# Altium schematic symbol library Common_library.SchLib: 11 symbols
Pins are listed as number, name and electrical type; pins without a type are passive.

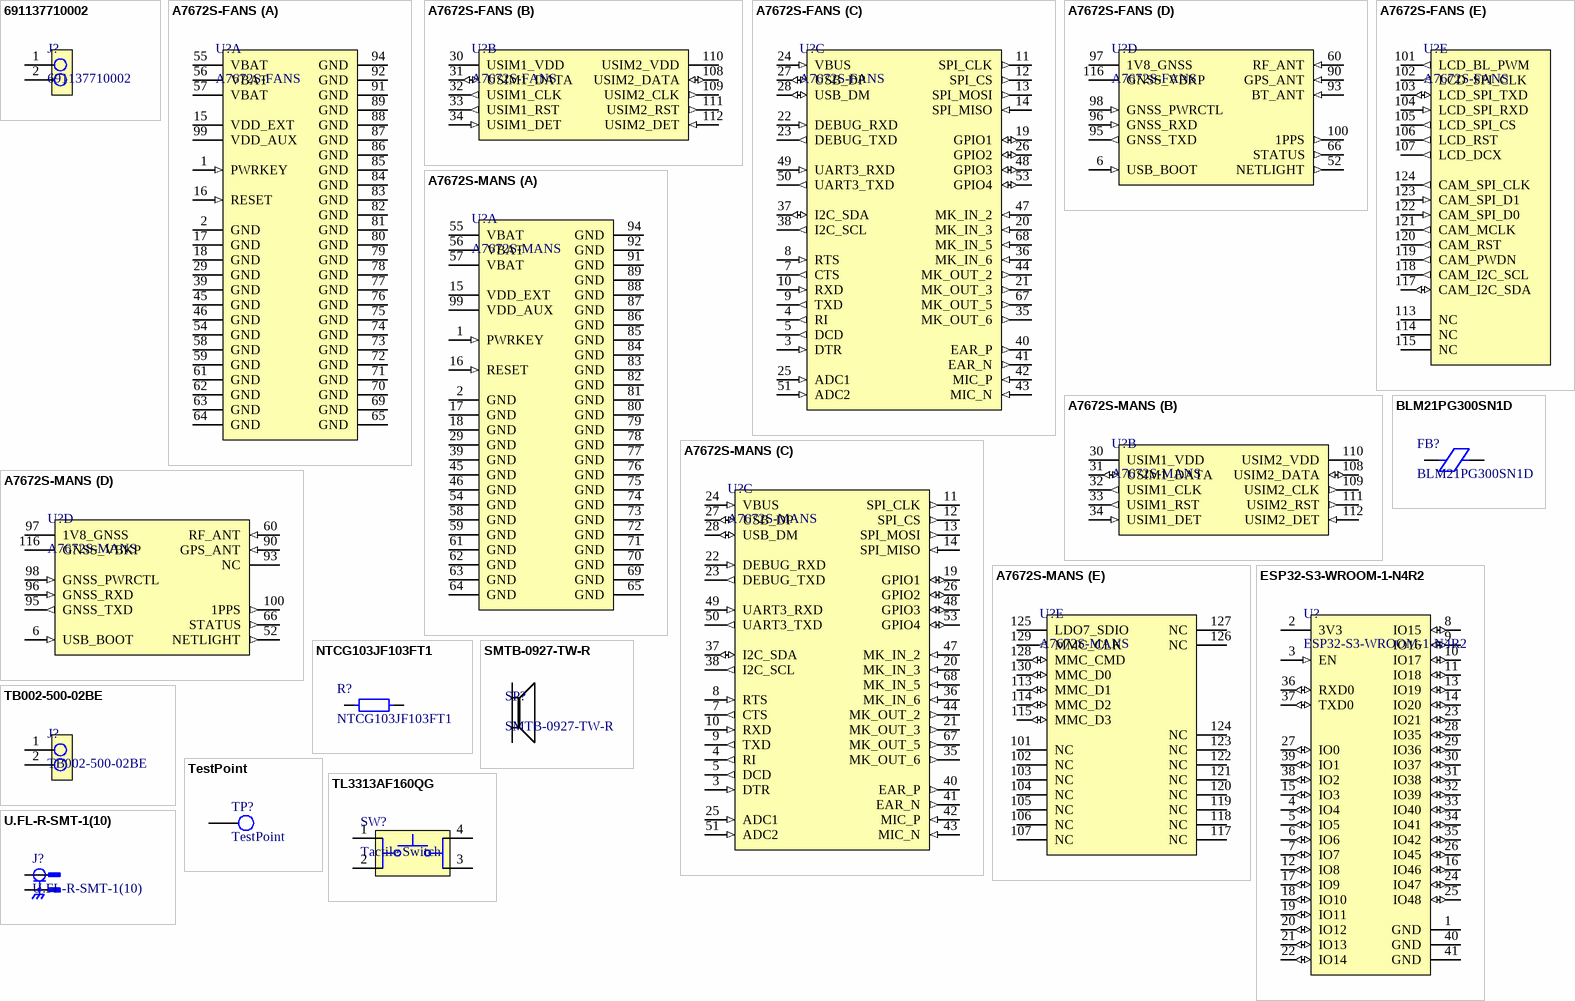
[diagram p0: symbols 691137710002 to U.FL-R-SMT-1(10)]

## 691137710002
designator J?
2 Position Wire to Board Terminal Block Horizontal with Board 0.197" (5.00mm) Through Hole; Manufacturer 1: Wurth Elektronik; Description 1: Terminal Block, 5MM Pitch, Horizontal, Pressure Clamp Glow Wire, Pcb, 2PINS, Gr; Category 1: Terminal Blocks; Current Rating: 16A; Number of Contacts: 2; Packaging 1: Box; Pitch: 5mm; Voltage Rating: 300V; Supplier 1: DigiKey; Supplier Part Number 1: 732-10955-ND; Manufacturer Part Number 1: 691137710002; RoHS 1: Compliant; Contact Material: Nickel, Tin; Height: 11.5mm; Lead Pitch: 5mm; Length: 10mm; Max Operating Temperature 1: 110°C; Min Operating Temperature 1: -30°C; Number of Pins 1: 2; Number of Rows: 1; ComponentLink1URL: https://datasheet.octopart.com:443/691137710002-Wurth-Elektronik-datasheet-166323112.pdf?src-supplier=Wurth+Elektronik; ComponentLink1Description: https://datasheet.octopart.com:443/691137710002-Wurth-Elektronik-datasheet-166323112.pdf?src-supplier=Wurth+Elektronik; Supplier 2: Mouser; Supplier Part Number 2: 710-691137710002; Supplier 3: Newark; Supplier Part Number 3: 691137710002; Supplier 4: Farnell; Supplier Part Number 4: 3767630
footprint 691137710002 (2 Position Wire to Board Terminal Block Horizontal with Board 0.197" (5.00mm) Through Hole)
pins: 1 "Connector_Pin1", 2 "Connector_Pin2"

## A7672S-FANS
designator U?
Cellular EDGE, GPRS, GSM, LTE Transceiver Module 900MHz, 1.8GHz Surface Mount; Manufacturer 1: SIMCom; Manufacturer Part Number 1: A7672S; ComponentLink1Description: Product page; ComponentLink1URL: https://www.simcom.com/product/A7672X.html; ComponentLink2Description: Product datasheet; ComponentLink2URL: https://www.snapeda.com/parts/A7672S/SIMCom/datasheet/
footprint A7672S-FANS (Cellular EDGE, GPRS, GSM, LTE Transceiver Module 900MHz, 1.8GHz Surface Mount)
part A pins: 1 PWRKEY (in) "Power ON/OFF input, active low. Power button defaults high", 2 GND (power) "Ground", 15 VDD_EXT (power) "1.8V power output, output current up to 50 mA. Cannot provide to high power load, can provide power for level conversion circuit,etc.", 16 RESET (in) "System reset control input, active low.", 17 GND (power) "Ground", 18 GND (power) "Ground", 29 GND (power) "Ground", 39 GND (power) "Ground", 45 GND (power) "Ground", 46 GND (power) "Ground", 54 GND (power) "Ground", 55 VBAT (power) "Module input voltage ranges from 3.4V to 4.2V, typical value is 3.8V, and the peak current value can reach1A.", 56 VBAT (power) "Module input voltage ranges from 3.4V to 4.2V, typical value is 3.8V, and the peak current value can reach1A.", 57 VBAT (power) "Module input voltage ranges from 3.4V to 4.2V, typical value is 3.8V, and the peak current value can reach1A.", 58 GND (power) "Ground", 59 GND (power) "Ground", 61 GND (power) "Ground", 62 GND (power) "Ground", 63 GND (power) "Ground", 64 GND (power) "Ground", 65 GND (power) "Ground", 69 GND (power) "Ground", 70 GND (power) "Ground", 71 GND (power) "Ground", 72 GND (power) "Ground", 73 GND (power) "Ground", 74 GND (power) "Ground", 75 GND (power) "Ground", 76 GND (power) "Ground", 77 GND (power) "Ground", 78 GND (power) "Ground", 79 GND (power) "Ground", 80 GND (power) "Ground", 81 GND (power) "Ground", 82 GND (power) "Ground", 83 GND (power) "Ground", 84 GND (power) "Ground", 85 GND (power) "Ground", 86 GND (power) "Ground", 87 GND (power) "Ground", 88 GND (power) "Ground", 89 GND (power) "Ground", 91 GND (power) "Ground", 92 GND (power) "Ground", 94 GND (power) "Ground", 99 VDD_AUX (power) "The default output voltage is 3V. The maximum output current is 50mA. Cannot provide to high power load."
part B pins: 30 USIM1_VDD (power) "USIM1 card power supply output, output voltage can be dynamically changed according to the type of external card, output current maximum 50mA.", 31 USIM1_DATA (io) "USIM1 bus data, module internal 4.7KΩ resistor pulled up to USIM1_VDD.", 32 USIM1_CLK (out) "USIM1 bus clock output.", 33 USIM1_RST (out) "USIM1 bus reset output.", 34 USIM1_DET (in) "USIM1 insert detect, it can be set to high/low active with the AT command.", 108 USIM2_DATA (io) "USIM2 bus data, module internal 4.7KΩ resistor pulled up to USIM2_VDD.", 109 USIM2_CLK (out) "USIM2 bus clock output.", 110 USIM2_VDD (power) "USIM2 card power supply output, output voltage can be dynamically changed according to the type of external card, output current maximum 50mA.", 111 USIM2_RST (out) "USIM2 bus reset output.", 112 USIM2_DET (in) "USIM2 insert detect, it can be set to high/low active with the AT command."
part C pins: 3 DTR (in) "DTE Ready.", 4 RI (out) "Ringing indicator.", 5 DCD (out) "Carrier detection.", 7 CTS (out) "CTS output.", 8 RTS (in) "RTS input.", 9 TXD (out) "Data output.", 10 RXD (in) "Data input.", 11 SPI_CLK (out) "SPI clock.", 12 SPI_CS (out) "SPI chip selection.", 13 SPI_MOSI (out) "SPI Main output slave input.", 14 SPI_MISO (in) "SPI Main input slave output.", 19 GPIO1 (io) "General purpose I/O 1", 20 MK_IN_3 (in) "Keyboard input.", 21 MK_OUT_3 (out) "Keyboard output.", 22 DEBUG_RXD (in) "UART input.", 23 DEBUG_TXD (out) "UART output.", 24 VBUS (in) "Valid USB detection input. Active high.", 25 ADC1 (in) "General purpose ADC 1", 26 GPIO2 (io) "General purpose I/O 2", 27 USB_DP (io) "USB bus differential positive terminal.", 28 USB_DM (io) "USB bus differential negative terminal.", 35 MK_OUT_6 (out) "Keyboard output.", 36 MK_IN_6 (in) "Keyboard input.", 37 I2C_SDA (io) "I2C data.", 38 I2C_SCL (out) "I2C clock.", 40 EAR_P (out) "Audio receiver output positive.", 41 EAR_N (out) "Audio receiver output negative.", 42 MIC_P (in) "MIC input positive.", 43 MIC_N (in) "MIC input negative.", 44 MK_OUT_2 (out) "Keyboard output.", 47 MK_IN_2 (in) "Keyboard input.", 48 GPIO3 (io) "General purpose I/O 3", 49 UART3_RXD (in) "UART3 input.", 50 UART3_TXD (out) "UART3 output.", 51 ADC2 (in) "General purpose ADC 2", 53 GPIO4 (io) "General purpose I/O 4", 67 MK_OUT_5 (out) "Keyboard output.", 68 MK_IN_5 (in) "Keyboard input."
part D pins: 6 USB_BOOT (in) "Force the download interface. Connect to GND and then power on the module. The module will enter the USB download mode.", 52 NETLIGHT (out) "Network registration status indicator (LED).", 60 RF_ANT (in) "Main antenna.", 66 STATUS (out) "Module status indicator (LED).", 90 GPS_ANT (in) "GNSS antenna.", 93 BT_ANT (in) "Bluetooth antenna.", 95 GNSS_TXD (out) "GNSS UART TX", 96 GNSS_RXD (in) "GNSS UART RX", 97 1V8_GNSS (power) "The power input for GNSS, Voltage range not less than 1.8V, but not higher than1.9V", 98 GNSS_PWRCTL (in) "The enable control PIN of GNSS power supply.", 100 1PPS (out) "1PPS pulse signal output.", 116 GNSS_VBKP (power) "GNSS standby power input, input voltage1.4V~3.6V"
part E pins: 101 LCD_BL_PWM (out) "LCD backlight adjusting PWM.", 102 LCD_SPI_CLK (out) "LCD SPI clock.", 103 LCD_SPI_TXD (io) "LCD SPI bidirectional data.", 104 LCD_SPI_RXD (in) "LCD SPI data.", 105 LCD_SPI_CS (out) "LCD SPI CS.", 106 LCD_RST (out) "LCD reset.", 107 LCD_DCX (out) "LCD Command/ parameter selection.", 113 NC "Not Connected.", 114 NC "Not Connected.", 115 NC "Not Connected.", 117 CAM_I2C_SDA (io) "CAM special I2C data.", 118 CAM_I2C_SCL (out) "CAM special I2C clock.", 119 CAM_PWDN (out) "CAM power down.", 120 CAM_RST (out) "Camera reset.", 121 CAM_MCLK (out) "Camera main clock.", 122 CAM_SPI_D0 (in) "Camera SPI D0", 123 CAM_SPI_D1 (in) "Camera SPI D1", 124 CAM_SPI_CLK (out) "Camera SPI clock."

## A7672S-MANS
designator U?
Cellular EDGE, GPRS, GSM, LTE Transceiver Module 900MHz, 1.8GHz Surface Mount; Manufacturer 1: SIMCom; Manufacturer Part Number 1: A7672S; ComponentLink1Description: Product page; ComponentLink1URL: https://www.simcom.com/product/A7672X.html; ComponentLink2Description: Product datasheet; ComponentLink2URL: https://www.snapeda.com/parts/A7672S/SIMCom/datasheet/
footprint A7672S-MANS (Cellular EDGE, GPRS, GSM, LTE Transceiver Module 900MHz, 1.8GHz Surface Mount)
part A pins: 1 PWRKEY (in) "Power ON/OFF input, active low. Power button defaults high", 2 GND (power) "Ground", 15 VDD_EXT (power) "1.8V power output, output current up to 50 mA. Cannot provide to high power load, can provide power for level conversion circuit,etc.", 16 RESET (in) "System reset control input, active low.", 17 GND (power) "Ground", 18 GND (power) "Ground", 29 GND (power) "Ground", 39 GND (power) "Ground", 45 GND (power) "Ground", 46 GND (power) "Ground", 54 GND (power) "Ground", 55 VBAT (power) "Module input voltage ranges from 3.4V to 4.2V, typical value is 3.8V, and the peak current value can reach1A.", 56 VBAT (power) "Module input voltage ranges from 3.4V to 4.2V, typical value is 3.8V, and the peak current value can reach1A.", 57 VBAT (power) "Module input voltage ranges from 3.4V to 4.2V, typical value is 3.8V, and the peak current value can reach1A.", 58 GND (power) "Ground", 59 GND (power) "Ground", 61 GND (power) "Ground", 62 GND (power) "Ground", 63 GND (power) "Ground", 64 GND (power) "Ground", 65 GND (power) "Ground", 69 GND (power) "Ground", 70 GND (power) "Ground", 71 GND (power) "Ground", 72 GND (power) "Ground", 73 GND (power) "Ground", 74 GND (power) "Ground", 75 GND (power) "Ground", 76 GND (power) "Ground", 77 GND (power) "Ground", 78 GND (power) "Ground", 79 GND (power) "Ground", 80 GND (power) "Ground", 81 GND (power) "Ground", 82 GND (power) "Ground", 83 GND (power) "Ground", 84 GND (power) "Ground", 85 GND (power) "Ground", 86 GND (power) "Ground", 87 GND (power) "Ground", 88 GND (power) "Ground", 89 GND (power) "Ground", 91 GND (power) "Ground", 92 GND (power) "Ground", 94 GND (power) "Ground", 99 VDD_AUX (power) "The default output voltage is 3V. The maximum output current is 50mA. Cannot provide to high power load."
part B pins: 30 USIM1_VDD (power) "USIM1 card power supply output, output voltage can be dynamically changed according to the type of external card, output current maximum 50mA.", 31 USIM1_DATA (io) "USIM1 bus data, module internal 4.7KΩ resistor pulled up to USIM1_VDD.", 32 USIM1_CLK (out) "USIM1 bus clock output.", 33 USIM1_RST (out) "USIM1 bus reset output.", 34 USIM1_DET (in) "USIM1 insert detect, it can be set to high/low active with the AT command.", 108 USIM2_DATA (io) "USIM2 bus data, module internal 4.7KΩ resistor pulled up to USIM2_VDD.", 109 USIM2_CLK (out) "USIM2 bus clock output.", 110 USIM2_VDD (power) "USIM2 card power supply output, output voltage can be dynamically changed according to the type of external card, output current maximum 50mA.", 111 USIM2_RST (out) "USIM2 bus reset output.", 112 USIM2_DET (in) "USIM2 insert detect, it can be set to high/low active with the AT command."
part C pins: 3 DTR (in) "DTE Ready.", 4 RI (out) "Ringing indicator.", 5 DCD (out) "Carrier detection.", 7 CTS (out) "CTS output.", 8 RTS (in) "RTS input.", 9 TXD (out) "Data output.", 10 RXD (in) "Data input.", 11 SPI_CLK (out) "SPI clock.", 12 SPI_CS (out) "SPI chip selection.", 13 SPI_MOSI (out) "SPI Main output slave input.", 14 SPI_MISO (in) "SPI Main input slave output.", 19 GPIO1 (io) "General purpose I/O 1", 20 MK_IN_3 (in) "Keyboard input.", 21 MK_OUT_3 (out) "Keyboard output.", 22 DEBUG_RXD (in) "UART input.", 23 DEBUG_TXD (out) "UART output.", 24 VBUS (in) "Valid USB detection input. Active high.", 25 ADC1 (in) "General purpose ADC 1", 26 GPIO2 (io) "General purpose I/O 2", 27 USB_DP (io) "USB bus differential positive terminal.", 28 USB_DM (io) "USB bus differential negative terminal.", 35 MK_OUT_6 (out) "Keyboard output.", 36 MK_IN_6 (in) "Keyboard input.", 37 I2C_SDA (io) "I2C data.", 38 I2C_SCL (out) "I2C clock.", 40 EAR_P (out) "Audio receiver output positive.", 41 EAR_N (out) "Audio receiver output negative.", 42 MIC_P (in) "MIC input positive.", 43 MIC_N (in) "MIC input negative.", 44 MK_OUT_2 (out) "Keyboard output.", 47 MK_IN_2 (in) "Keyboard input.", 48 GPIO3 (io) "General purpose I/O 3", 49 UART3_RXD (in) "UART3 input.", 50 UART3_TXD (out) "UART3 output.", 51 ADC2 (in) "General purpose ADC 2", 53 GPIO4 (io) "General purpose I/O 4", 67 MK_OUT_5 (out) "Keyboard output.", 68 MK_IN_5 (in) "Keyboard input."
part D pins: 6 USB_BOOT (in) "Force the download interface. Connect to GND and then power on the module. The module will enter the USB download mode.", 52 NETLIGHT (out) "Network registration status indicator (LED).", 60 RF_ANT (in) "Main antenna.", 66 STATUS (out) "Module status indicator (LED).", 90 GPS_ANT (in) "GNSS antenna.", 93 NC "Not Connected.", 95 GNSS_TXD (out) "GNSS UART TX", 96 GNSS_RXD (in) "GNSS UART RX", 97 1V8_GNSS (power) "The power input for GNSS, Voltage range not less than 1.8V, but not higher than1.9V", 98 GNSS_PWRCTL (in) "The enable control PIN of GNSS power supply.", 100 1PPS (out) "1PPS pulse signal output.", 116 GNSS_VBKP (power) "GNSS standby power input, input voltage1.4V~3.6V"
part E pins: 101 NC "Not Connected.", 102 NC "Not Connected.", 103 NC "Not Connected.", 104 NC "Not Connected.", 105 NC "Not Connected.", 106 NC "Not Connected.", 107 NC "Not Connected.", 113 MMC_D1 (io) "MMC and SD data 1", 114 MMC_D2 (io) "MMC and SD data 2", 115 MMC_D3 (io) "MMC and SD data 3", 117 NC "Not Connected.", 118 NC "Not Connected.", 119 NC "Not Connected.", 120 NC "Not Connected.", 121 NC "Not Connected.", 122 NC "Not Connected.", 123 NC "Not Connected.", 124 NC "Not Connected.", 125 LDO7_SDIO (power) "DATA cable Digital pull-up power supply.", 126 NC "Not Connected.", 127 NC "Not Connected.", 128 MMC_CMD (io) "MMC and SD commands.", 129 MMC_CLK (out) "MMC and SD clock.", 130 MMC_D0 (io) "MMC and SD data 0"

## BLM21PG300SN1D
designator FB?
30 Ohms @ 100 MHz 1 Power Line Ferrite Bead 0805 (2012 Metric) 4A 14mOhm; Manufacturer 1: Murata; Description 1: Ferrite Beads Multi-Layer 30Ohm 100MHz 4A 14mOhm DCR 0805 Paper T/R; Category 1: Ferrite Beads and Chips; Case/Package 1: 0805; Current Rating: 2.3A; DC Current: 3A; DC Resistance (DCR): 14mΩ; Frequency: 100MHz; Impedance: 30Ω; Material: Ferrite, Steel; Number of Circuits: 1; Number of Pins 1: 2; Packaging 1: Tape and Reel; Resistance: 15mΩ; Shielding: Unshielded; Tolerance: 25%; Supplier 1: DigiKey; Supplier Part Number 1: 490-1052-1-ND; Manufacturer Part Number 1: BLM21PG300SN1D; RoHS 1: Compliant; Case Code (Imperial): 0805; Case Code (Metric): 2012; Core Material: Ferrite; Country of Origin: Japan; Depth: 1.25mm; Export Control Classification Number (ECCN) Code: EAR99; Height: 850µm; Harmonized Tariff Schedule (HTS) Code: 8504.50.80.00; Introduction Date: 2001-08-28; Lead Free 1: Lead Free; Length: 2mm; Lifecycle Status: Production; Max Current Rating: 4A; Max DC Current: 3A; Max Frequency: 100MHz; Max Operating Temperature 1: 125°C; Military Standard: Not; Min Operating Temperature 1: -55°C; Number of Lines: 1; Number of Terminals: 2; Radiation Hardening: No; REACH SVHC: Yes; RMS Current (Irms): 4A; Schedule B: 8504500000, 8504500000|8504500000|8504500000|8504500000|8504500000|8504500000|8504500000|8504500000|8504500000|8504500000|8504500000|8504500000|8504500000|8504500000|8504500000|8504500000, 8504500000|8504500000|8504500000|8504500000|8504500000|8504500000|8504500000|8504500000|8504500000|8504500000|8504500000|8504500000|8504500000|8504500000|8504500000|8504500000|8504500000, 8504500000|8504500000|8504500000|8504500000|8504500000|8504500000|8504500000|8504500000|8504500000|8504500000|8504500000|8504500000|8504500000|8504500000|8504500000|8504500000|8504500000|8504500000; Series Resistance: 14mΩ; Termination: SMD/SMT; Test Frequency: 100MHz; Width: 1.25mm; ComponentLink1URL: https://datasheet.octopart.com:443/BLM21PG300SN1D-Murata-datasheet-12522583.pdf?src-supplier=Upverter; ComponentLink1Description: https://datasheet.octopart.com:443/BLM21PG300SN1D-Murata-datasheet-12522583.pdf?src-supplier=Upverter; Supplier 2: Avnet; Supplier Part Number 2: BLM21PG300SN1D; Supplier 3: Avnet; Supplier Part Number 3: 73M9168; Supplier 4: DigiKey; Supplier Part Number 4: 490-1052-6-ND; Supplier 5: DigiKey; Supplier Part Number 5: 490-1052-2-ND; Supplier 6: Arrow Electronics; Supplier Part Number 6: BLM21PG300SN1D; Supplier 7: Future Electronics; Supplier Part Number 7: 2200054; Supplier 8: Future Electronics; Supplier Part Number 8: 9045857; Supplier 9: Future Electronics; Supplier Part Number 9: 5759592; Supplier 10: Mouser; Supplier Part Number 10: 81-BLM21P300S; Supplier 11: Newark; Supplier Part Number 11: BLM21PG300SN1D; Supplier 12: Farnell; Supplier Part Number 12: 1515662; Supplier 13: Farnell; Supplier Part Number 13: 1515662RL; Supplier 14: LCSC; Supplier Part Number 14: C16903
footprint BLM21PG300SN1D (30 Ohms @ 100 MHz 1 Power Line Ferrite Bead 0805 (2012 Metric) 4A 14mOhm)
pins: 1 "FerriteBead_Pin_01", 2 "FerriteBead_Pin_02"

## ESP32-S3-WROOM-1-N4R2
designator U?
Bluetooth, WiFi 802.11b/g/n, Bluetooth v5.0 Transceiver Module 2.4GHz PCB Trace Surface Mount; Manufacturer: Espressif Systems; Utilized IC / Part: ESP32-S3R2; Data Rate: 150Mbps; Power - Output: 20.5dBm; Sensitivity: -103.5dBm; Serial Interfaces: ADC, GPIO, I2C, I2S, SPI, PWM, UART, USB; Memory Size: 4MB Flash, 384kB ROM, 2MB SRAM; Voltage - Supply: 3V ~ 3.6V; Current - Receiving: 95mA ~ 97mA; Current - Transmitting: 285mA ~ 355mA; Manufacturer Part Number: ESP32-S3-WROOM-1-N4R2; Supplier 1: Digi-Key; Supplier Part Number 1: 1965-ESP32-S3-WROOM-1-N4R2CT-ND; Category: RF Transceiver Modules and Modems; Series: ESP32-S3; RF Family/Standard: Bluetooth, WiFi; Protocol: 802.11b/g/n, Bluetooth v5.0; Frequency: 2.4GHz; Antenna Type: PCB Trace; Mounting Type: Surface Mount; Operating Temperature: -40°C ~ 85°C (TA); ComponentLink1Description: Datasheet; ComponentLink1URL: https://www.espressif.com/sites/default/files/documentation/esp32-s3-wroom-1_wroom-1u_datasheet_en.pdf
footprint ESP32-S3-WROOM-1-N4R2 (RF TX RX MODULE WIFI BT PCB TRACE SMD)
pins: 1 GND (power) "Ground", 2 3V3 (power) "Power supply", 3 EN (in) "Do not leave the EN pin floating", 4 IO4 (io) "RTC_GPIO4, GPIO4, TOUCH4, ADC1_CH3", 5 IO5 (io) "RTC_GPIO5, GPIO5, TOUCH5, ADC1_CH4", 6 IO6 (io) "RTC_GPIO6, GPIO6, TOUCH6, ADC1_CH5", 7 IO7 (io) "RTC_GPIO7, GPIO7, TOUCH7, ADC1_CH6", 8 IO15 (io) "RTC_GPIO15, GPIO15, U0RTS, ADC2_CH4, XTAL_32K_P", 9 IO16 (io) "RTC_GPIO16, GPIO16, U0CTS, ADC2_CH5, XTAL_32K_N", 10 IO17 (io) "RTC_GPIO17, GPIO17, U1TXD, ADC2_CH6", 11 IO18 (io) "RTC_GPIO18, GPIO18, U1RXD, ADC2_CH7, CLK_OUT3", 12 IO8 (io) "RTC_GPIO8, GPIO8, TOUCH8, ADC1_CH7, SUBSPICS1", 13 IO19 (io) "RTC_GPIO19, GPIO19, U1RTS, ADC2_CH8, CLK_OUT2, USB_D-", 14 IO20 (io) "RTC_GPIO20, GPIO20, U1CTS, ADC2_CH9, CLK_OUT1, USB_D+", 15 IO3 (io) "RTC_GPIO3, GPIO3, TOUCH3, ADC1_CH2", 16 IO46 (io) "GPIO46", 17 IO9 (io) "RTC_GPIO9, GPIO9, TOUCH9, ADC1_CH8, FSPIHD, SUBSPIHD", 18 IO10 (io) "RTC_GPIO10, GPIO10, TOUCH10, ADC1_CH9, FSPICS0, FSPIIO4, SUBSPICS0", 19 IO11 (io) "RTC_GPIO11, GPIO11, TOUCH11, ADC2_CH0, FSPID, FSPIIO5, SUBSPID", 20 IO12 (io) "RTC_GPIO12, GPIO12, TOUCH12, ADC2_CH1, FSPICLK, FSPIIO6, SUBSPICLK", 21 IO13 (io) "RTC_GPIO13, GPIO13, TOUCH13, ADC2_CH2, FSPIQ, FSPIIO7, SUBSPIQ", 22 IO14 (io) "RTC_GPIO14, GPIO14, TOUCH14, ADC2_CH3, FSPIWP, FSPIDQS, SUBSPIWP", 23 IO21 (io) "RTC_GPIO21, GPIO21", 24 IO47 (io) "SPICLK_P_DIFF,GPIO47, SUBSPICLK_P_DIFF", 25 IO48 (io) "SPICLK_N_DIFF,GPIO48, SUBSPICLK_N_DIFF", 26 IO45 (io) "GPIO45", 27 IO0 (io) "RTC_GPIO0, GPIO0", 28 IO35 (io) "SPIIO6, GPIO35, FSPID, SUBSPID", 29 IO36 (io) "SPIIO7, GPIO36, FSPICLK, SUBSPICLK", 30 IO37 (io) "SPIDQS, GPIO37, FSPIQ, SUBSPIQ", 31 IO38 (io) "GPIO38, FSPIWP, SUBSPIWP", 32 IO39 (io) "MTCK, GPIO39, CLK_OUT3, SUBSPICS1", 33 IO40 (io) "MTDO, GPIO40, CLK_OUT2", 34 IO41 (io) "MTDI, GPIO41, CLK_OUT1", 35 IO42 (io) "MTMS, GPIO42", 36 RXD0 (io) "U0RXD, GPIO44, CLK_OUT2", 37 TXD0 (io) "U0TXD, GPIO43, CLK_OUT1", 38 IO2 (io) "RTC_GPIO2, GPIO2, TOUCH2, ADC1_CH1", 39 IO1 (io) "RTC_GPIO1, GPIO1, TOUCH1, ADC1_CH0", 40 GND (power) "Ground", 41 GND (power) "Ground"

## NTCG103JF103FT1
designator R?
NTC Thermistor 10k 0402 (1005 Metric); Manufacturer 1: TDK; Manufacturer Part Number 1: NTCG103JF103FT1S; Manufacturer Lifecycle Status: PRODUCTION; Description 1: Thermistor NTC 10K Ohm 1% 2-Pin 0402 Surface Mount Solder Pad 3435K T/R Automotive; Category 1: Thermistors; Case/Package 1: 0402; Mount 1: Surface Mount; Number of Pins 1: 2; Power Dissipation 1: 125mW; Resistance: 10kΩ; Tolerance: 1%; Working Voltage: 5V; Supplier 1: DigiKey; Supplier Part Number 1: 445-174506-1-ND; RoHS 1: Compliant; Case Code (Imperial): 0402; Case Code (Metric): 1005; Export Control Classification Number (ECCN) Code: EAR99; Height: 500µm; Harmonized Tariff Schedule (HTS) Code: 8533.40.80.70; Introduction Date: 2020-05-27; Length: 1mm; Lifecycle Status: Production; Max Length: 1.05mm; Max Operating Temperature 1: 150°C; Max Width: 550µm; Min Length: 950µm; Min Operating Temperature 1: -40°C; Min Width: 450µm; Number of Terminals: 2; REACH SVHC: Yes; Schedule B: 8533400080, 8533400080|8533400080, 8533400080|8533400080|8533400080, 8533400080|8533400080|8533400080|8533400080; Width: 500µm; ComponentLink1URL: https://datasheet.octopart.com:443/NTCG103JF103FT1S-TDK-datasheet-182148507.pdf?src-supplier=IHS; ComponentLink1Description: https://datasheet.octopart.com:443/NTCG103JF103FT1S-TDK-datasheet-182148507.pdf?src-supplier=IHS; Supplier 2: Arrow Electronics; Supplier Part Number 2: NTCG103JF103FT1S; Supplier 3: Mouser; Supplier Part Number 3: 810-NTCG103JF103FT1S; Supplier 4: DigiKey; Supplier Part Number 4: 445-174506-6-ND; Supplier 5: DigiKey; Supplier Part Number 5: 445-174506-2-ND; Supplier 6: Avnet; Supplier Part Number 6: NTCG103JF103FT1S; Supplier 7: Future Electronics; Supplier Part Number 7: 1111262; Supplier 8: Newark; Supplier Part Number 8: NTCG103JF103FT1S; Supplier 9: Farnell; Supplier Part Number 9: 3386914; Supplier 10: Farnell; Supplier Part Number 10: 3386914RL
footprint NTCG103JF103FT1 (NTC Thermistor 10k 0402 (1005 Metric))
pins: 1 "NTC_Pin_01", 2 "NTC_Pin_02"

## SMTB-0927-TW-R
designator SP?
Transducer, Electro-Mechanical, 95 dBA, 2.7 kHz, Liquid Crystal Polymer, SMD; Manufacturer 1: PUI Audio; Category 1: Buzzer; Supplier 1: DigiKey; Supplier Part Number 1: 668-SMTB-0927-TW-RCT-ND; Manufacturer Part Number 1: SMTB-0927-TW-R; RoHS 1: Compliant; Description 1: Transducer, Electro-Mechanical, 95 dBA, 2.7 kHz, Liquid Crystal Polymer, SMD; REACH SVHC: Yes; ComponentLink1URL: https://datasheet.octopart.com:443/SMTB-0927-TW-R-PUI-Audio-datasheet-154249357.pdf?src-supplier=Master+Electronics; ComponentLink1Description: https://datasheet.octopart.com:443/SMTB-0927-TW-R-PUI-Audio-datasheet-154249357.pdf?src-supplier=Master+Electronics; Supplier 2: Mouser; Supplier Part Number 2: 665-SMTB0927TWR
footprint SMTB-0927-TW-R (Buzzers Transducer, Externally Driven Electromechanical/Magnetic 3 V 80mA 2.7kHz 95dB @ 3V, 10cm Surface Mount Solder Pads)
pins: 1 "Buzzer_Pin1", 2 "Buzzer_Pin2"
1 alternate drawing of the same symbol

## TB002-500-02BE
designator J?
2 Position Wire to Board Terminal Block Horizontal with Board 0.197" (5.00mm) Through Hole; Manufacturer 1: Same Sky; Description 1: 2~24 Poles, Screw Type, Horizontal, 5.0 Pitch, 22~12 (AWG), Terminal Block Connector; Category 1: Terminal Blocks; Approvals: CE, EN, IEC, UL, cUL; Current Rating: 15A; Mount 1: Screw; Number of Contacts: 2; Number of Levels: 1; Pitch: 5mm; Voltage Rating: 300V; Wire/Cable Gauge: 12AWG; Supplier 1: DigiKey; Supplier Part Number 1: 102-6145-ND; Manufacturer Part Number 1: TB002-500-02BE; RoHS 1: Compliant; Color: Blue; Export Control Classification Number (ECCN) Code: EAR99; Height: 10mm; Harmonized Tariff Schedule (HTS) Code: 8536.90.40.00; Introduction Date: 2024-10-09; Lifecycle Status: Production; Max Operating Temperature 1: 105°C; Min Operating Temperature 1: -40°C; Number of Pins 1: 2; Number of Rows: 1; Orientation: Horizontal; REACH SVHC: Affected; Width: 7.6mm; ComponentLink1URL: https://datasheet.octopart.com:443/TB002-500-02BE-Same-Sky-datasheet-181920249.pdf?src-supplier=Same+Sky; ComponentLink1Description: https://datasheet.octopart.com:443/TB002-500-02BE-Same-Sky-datasheet-181920249.pdf?src-supplier=Same+Sky
footprint TB002-500-02BE (2 Position Wire to Board Terminal Block Horizontal with Board 0.197" (5.00mm) Through Hole)
pins: 1 "Connector_Pin1", 2 "Connector_Pin2"

## TestPoint
designator TP?
1mm Test Point
footprint TESTPOINT (1mm Test Point)
pins: 1 "Test_Node"

## TL3313AF160QG
designator SW?, comment Tactile Switch
Tactile Switch SPST-NO Top Actuated Surface Mount; Manufacturer: E-Switch; Manufacturer Part Number: TL3313AF160QG; Mechanical Life: 100000Cycles; Throw Configuration: SPST; Packaging 1: Tape and Reel; Operating Force: 160gf; Current Rating: 50mA; Voltage Rating (DC): 12V; Illumination Type: Non-Illuminated; Switch Travel: 0.25mm; Switch Function: Off-Mom; Contact Resistance: 50mR; Actuator Type: Standard; Actuator Length: 0.3mm; Supplier 1: Digi-Key; Supplier Part Number 1: EG6064CT-ND; RoHS: No; Category: Tactile Switches; Mount: Surface Mount; Min Operating Temperature 1: -20°C; Max Operating Temperature 1: 70°C; Package Quantity: 4000; Termination: Gull Wing; Series: TL3313; Max Voltage Rating (DC): 12V; Orientation: Straight; RoHS Compliant 1: No; ComponentLink1Description: Datasheet; ComponentLink1URL: https://sten-eswitch-13110800-production.s3.amazonaws.com/system/asset/product_line/data_sheet/161/TL3313.pdf
footprint TL3313AF160QG (SWITCH TACTILE SPST-NO 0.05A 12V)
pins: 1 "Pin Number 1", 2 "Pin Number 2", 3 "Pin Number 3", 4 "Pin Number 4"

## U.FL-R-SMT-1(10)
designator J?
U.FL (UMCC) Connector Receptacle, Male Pin 50 Ohms Surface Mount Solder; Manufacturer 1: HIROSE ELECTRIC; Description 1: RF CONNECTOR RF Connector, 1 Contact(s), Male, Board Mount, Surface Mount Terminal, Receptacle; Category 1: RF / Coaxial Connectors; Contact Resistance: 20mΩ; Dielectric Material: Liquid Crystal Polymer; Frequency: 8GHz; Impedance: 50Ω; Insertion Loss (dB): 0.05dB; Insulation Resistance: 500MΩ; Max Frequency: 6GHz; Number of Contacts: 1; Packaging 1: Tape & Reel (TR); Voltage Rating: 60V; Supplier 1: DigiKey; Supplier Part Number 1: H11891CT-ND; Manufacturer Part Number 1: U.FL-R-SMT-1(10); RoHS 1: Compliant; Connector Type: Receptacle; Contact Gender: Male; Contact Material: Brass, Gold, Silver; Contact Plating: Gold; Gender: Male; Height: 1.45mm; Lifecycle Status: Production; Max Operating Temperature 1: 105°C; Min Operating Temperature 1: -40°C; Number of Pins 1: 1; Number of Ports: 1; Orientation: Straight; REACH SVHC: Yes; ComponentLink1URL: https://datasheet.octopart.com:443/U.FL-R-SMT-1%2810%29-Hirose-datasheet-148804156.pdf?src-supplier=Upverter; ComponentLink1Description: https://datasheet.octopart.com:443/U.FL-R-SMT-1%2810%29-Hirose-datasheet-148804156.pdf?src-supplier=Upverter; Supplier 2: DigiKey; Supplier Part Number 2: H11891DKR-ND; Supplier 3: DigiKey; Supplier Part Number 3: H11891TR-ND; Supplier 4: Future Electronics; Supplier Part Number 4: 5324728; Supplier 5: Future Electronics; Supplier Part Number 5: 2067279; Supplier 6: Mouser; Supplier Part Number 6: 798-U.FL-R-SMT-110; Supplier 7: Avnet; Supplier Part Number 7: U.FL-R-SMT-1(10); Supplier 8: Newark; Supplier Part Number 8: U.FL-R-SMT-1(10); Supplier 9: Farnell; Supplier Part Number 9: 1688077
footprint U.FL-R-SMT-1(10) (U.FL (UMCC) Connector Receptacle, Male Pin 50 Ohms Surface Mount Solder)
pins: 1 "Antenna pin", G GND (power) "Chassis Ground"
1 alternate drawing of the same symbol